# Altium footprint library BottomBoardLib.PcbLib: 4 footprints
Each footprint in its own frame and in the unit in brackets; x right, y up, seen from the top. Pads: shape width x height; smd on the part's side, far side on the other; paste and mask are expansions set on the pad; w line width, h text height; cw(c..) or ccw(c..) is an arc to the next point about the centre after c.
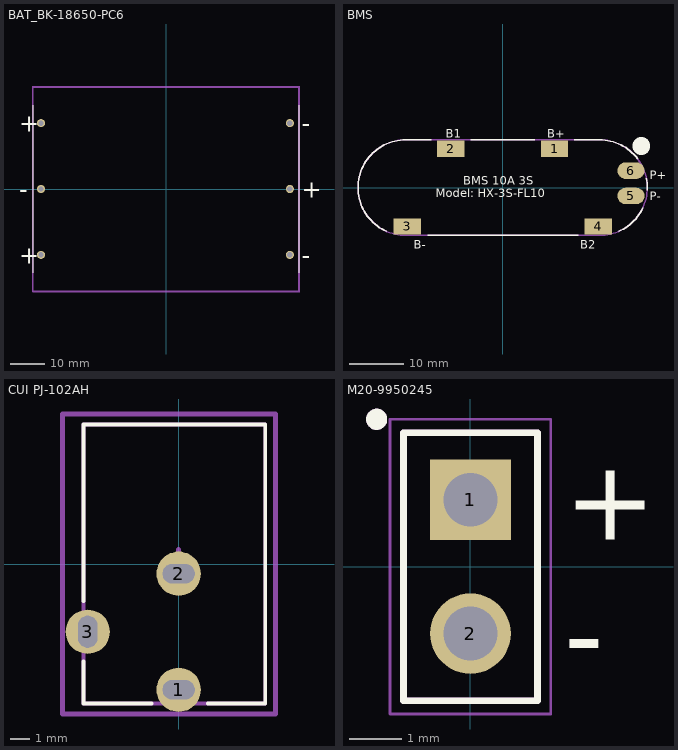
[diagram p0: the footprints below, top view; thin cyan lines are the x and y axes]

## BAT_BK-18650-PC6 [mm]
pads (6):
  round 2.4 hole 1.6: 1+(-36.65,19.3) 1-(36.25,19.3) 2+(36.25,0) 2-(-36.65,0) 3+(-36.65,-19.3) 3-(36.25,-19.3)
Top Overlay:
  lines w0.127: -38.85,-24.511 -38.85,24.511 ; 38.85,-24.511 38.85,24.511
  text "+" at -43.095,16.765 h5.08
  text "+" at -43.095,-21.843 h5.08
  text "-" at -43.095,-2.539 h5.08
  text "-" at 39.709,16.765 h5.08
  text "-" at 39.709,-21.843 h5.08
  text "+" at 39.709,-2.539 h5.08
Bottom Overlay:
  text "+" at 39.709,-2.539 h5.08
  text "+" at -43.095,-21.843 h5.08
  text "-" at -43.095,-2.539 h5.08
  text "-" at 39.709,16.765 h5.08
  text "-" at 39.709,-21.843 h5.08
  text "+" at -43.095,16.765 h5.08
Mechanical 13:
  lines w0.127: -38.85,-29.845 38.85,-29.845 38.85,29.845 -38.85,29.845 -38.85,-29.845
Mechanical 15:
  lines w0.05: -39.1,-30.095 39.1,-30.095 39.1,30.095 -39.1,30.095 -39.1,-30.095
3D body "BatteryHolder.STEP": height 21.7, standoff -3.77, extent -38.862,-29.682 38.788,29.718

## BMS [mm]
pads (6):
  rect 5x3 smd: 1(9.5,7.112) 2(-9.5,7.112) 3(-17.5,-7.112) 4(17.5,-7.112)
  oval 5x3 smd: 5(23.5,-1.524) 6(23.5,3.11)
Top Overlay:
  circle w3: c25.4,7.62 r0.125
  lines w0.254: -21.222,-8.032 cw(c-17.75,0) -26.5,0 cw(c-17.75,0) -17.75,8.75 -13.081,8.75 ; -13.716,-8.763 13.843,-8.75 ; -5.842,8.763 5.842,8.763 ; 13.081,8.75 17.75,8.75 cw(c17.75,0) 24.697,5.32 ; 21.222,-8.032 ccw(c17.75,0) 25.668,-3.724 ; 26.331,1.71 cw(c17.75,0) 26.489,-0.443
  text "B-" at -16.256,-11.176 h1.52
  text "B2" at 14.224,-11.176 h1.52
  text "B1" at -10.414,9.144 h1.52
  text "B+" at 8.128,9.144 h1.52
  text "P-" at 26.924,-2.286 h1.52
  text "P+" at 26.924,1.524 h1.52
  text "BMS 10A 3S" at -7.237,0.508 h1.52
  text "Model: HX-3S-FL10" at -12.256,-1.767 h1.52
Mechanical 13:
  lines w0.254: -26.492,0 cw(c-17.729,0) -17.729,8.763 17.729,8.763 cw(c17.729,0) 26.492,0 cw(c17.729,0) 17.729,-8.763 -17.729,-8.763 cw(c-17.729,0) -26.492,0

## CUI PJ-102AH [mm] "DC Barrel Jack W/ Switch 2.0x5.5"
height 11
pads (3):
  round 2.286 hole 1 slot 1.651 at 0 deg: 1(0,-6.5) 2(0,-0.5)
  round 2.286 hole 1 slot 1.651 at 90 deg: 3(-4.7,-3.5)
Top Overlay:
  lines w0.2: -4.925,-5.025 -4.925,-7.2 -1.4,-7.2 ; -4.925,-1.905 -4.925,7.2 4.475,7.2 4.475,-6.525 4.475,-7.2 1.5,-7.2
Mechanical 1:
  lines w0.2: -4.925,-7.2 4.475,-7.2 4.475,7.2 -4.925,7.2 -4.925,-7.2
Mechanical 15:
  lines w0.254: -0.75,0 0,0 ; 0,-0.75 0,0 ; 0,0.75 0,0 ; 0.75,0 0,0 ; -6,-7.75 5,-7.75 5,7.75 -6,7.75 -6,-3.5 -6,-7.75
3D body "CUI-PJ-102AH.step": height 11, standoff -3.5, extent -4.925,-7.2 4.475,7.2

## M20-9950245 [mm] "M20-9950245 Pin Connector"
pads (2):
  rect 1.53x1.53 hole 1.02: 1(0,1.27)
  round 1.53 hole 1.02: 2(0,-1.27)
Top Overlay:
  circle w0.2: c-1.778,2.794 r0.1
  lines w0.127: -1.27,-2.54 -1.27,2.54 1.27,2.54 1.27,-2.54 -1.27,-2.54
  text "+" at 1.778,0.508 h1.52
  text "-" at 1.778,-2.032 h1.52
Bottom Overlay:
  text "-" at 1.778,-2.032 h1.52
  text "+" at 1.778,0.508 h1.52
Mechanical 13:
  circle w0.2: c-1.778,2.794 r0.1
  lines w0.127: -1.27,-2.54 -1.27,2.54 1.27,2.54 1.27,-2.54 -1.27,-2.54
Mechanical 15:
  lines w0.05: -1.524,-2.794 -1.524,2.794 1.524,2.794 1.524,-2.794 -1.524,-2.794
3D body "M20-9950245(PinMaleHeader2x1).STEP": height 5.26, standoff -2.82, extent -1.27,-1.564 1.27,12.196